# Altium schematic symbol library IC_Chip.SchLib: 4 symbols
Pins are listed as number, name and electrical type; pins without a type are passive.

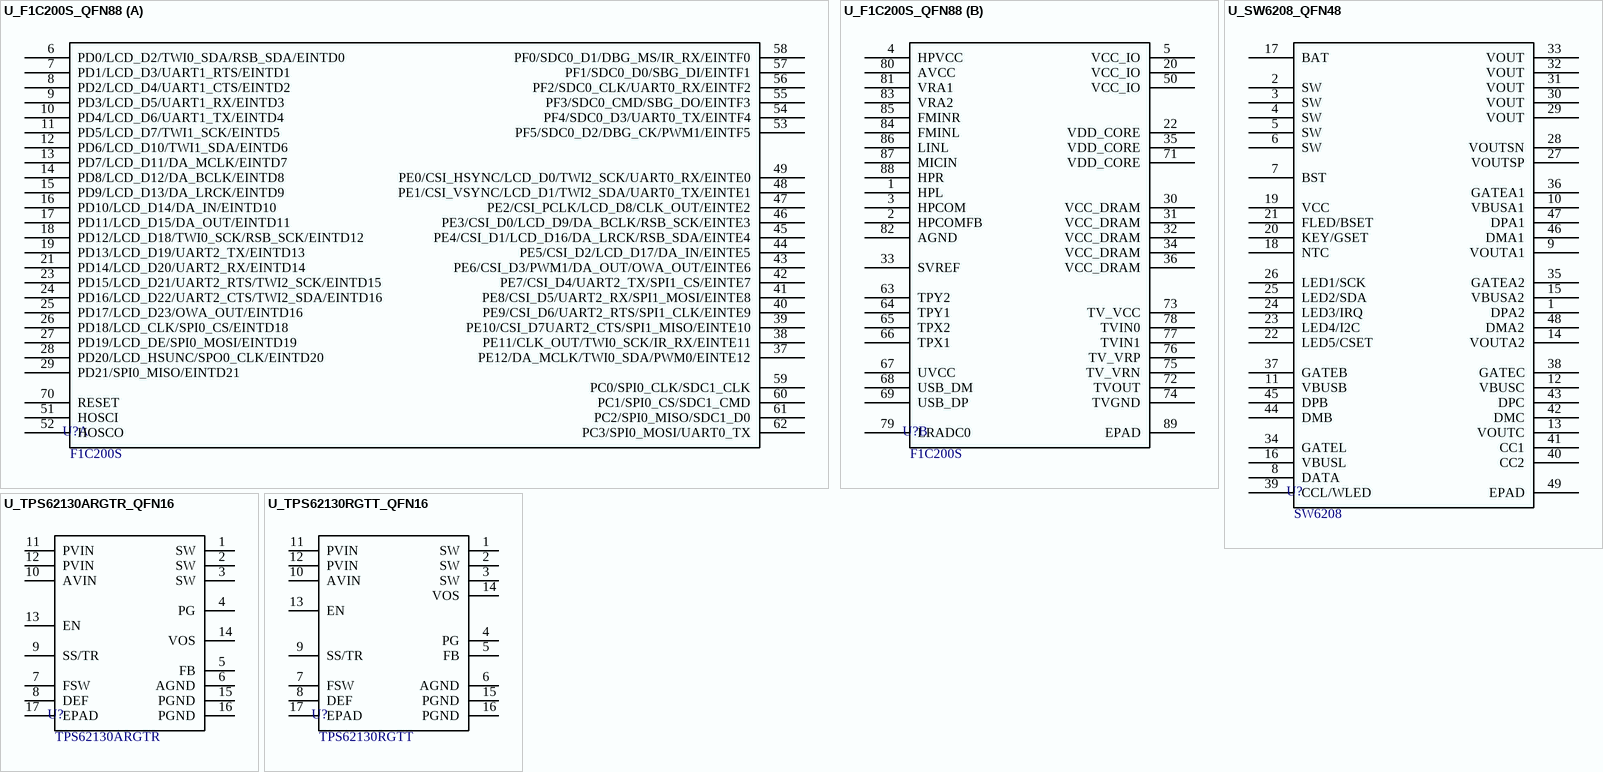
[diagram p0: symbols U_F1C200S_QFN88 to U_TPS62130RGTT_QFN16]

## U_F1C200S_QFN88
designator U?  value F1C200S  (hidden comment: U_F1C200S_QFN88)
footprint MQFN88-10X10-EP
part A pins: 6 PD0/LCD_D2/TWI0_SDA/RSB_SDA/EINTD0, 7 PD1/LCD_D3/UART1_RTS/EINTD1, 8 PD2/LCD_D4/UART1_CTS/EINTD2, 9 PD3/LCD_D5/UART1_RX/EINTD3, 10 PD4/LCD_D6/UART1_TX/EINTD4, 11 PD5/LCD_D7/TWI1_SCK/EINTD5, 12 PD6/LCD_D10/TWI1_SDA/EINTD6, 13 PD7/LCD_D11/DA_MCLK/EINTD7, 14 PD8/LCD_D12/DA_BCLK/EINTD8, 15 PD9/LCD_D13/DA_LRCK/EINTD9, 16 PD10/LCD_D14/DA_IN/EINTD10, 17 PD11/LCD_D15/DA_OUT/EINTD11, 18 PD12/LCD_D18/TWI0_SCK/RSB_SCK/EINTD12, 19 PD13/LCD_D19/UART2_TX/EINTD13, 21 PD14/LCD_D20/UART2_RX/EINTD14, 23 PD15/LCD_D21/UART2_RTS/TWI2_SCK/EINTD15, 24 PD16/LCD_D22/UART2_CTS/TWI2_SDA/EINTD16, 25 PD17/LCD_D23/OWA_OUT/EINTD16, 26 PD18/LCD_CLK/SPI0_CS/EINTD18, 27 PD19/LCD_DE/SPI0_MOSI/EINTD19, 28 PD20/LCD_HSUNC/SPO0_CLK/EINTD20, 29 PD21/SPI0_MISO/EINTD21, 37 PE12/DA_MCLK/TWI0_SDA/PWM0/EINTE12, 38 PE11/CLK_OUT/TWI0_SCK/IR_RX/EINTE11, 39 PE10/CSI_D7UART2_CTS/SPI1_MISO/EINTE10, 40 PE9/CSI_D6/UART2_RTS/SPI1_CLK/EINTE9, 41 PE8/CSI_D5/UART2_RX/SPI1_MOSI/EINTE8, 42 PE7/CSI_D4/UART2_TX/SPI1_CS/EINTE7, 43 PE6/CSI_D3/PWM1/DA_OUT/OWA_OUT/EINTE6, 44 PE5/CSI_D2/LCD_D17/DA_IN/EINTE5, 45 PE4/CSI_D1/LCD_D16/DA_LRCK/RSB_SDA/EINTE4, 46 PE3/CSI_D0/LCD_D9/DA_BCLK/RSB_SCK/EINTE3, 47 PE2/CSI_PCLK/LCD_D8/CLK_OUT/EINTE2, 48 PE1/CSI_VSYNC/LCD_D1/TWI2_SDA/UART0_TX/EINTE1, 49 PE0/CSI_HSYNC/LCD_D0/TWI2_SCK/UART0_RX/EINTE0, 51 HOSCI, 52 HOSCO, 53 PF5/SDC0_D2/DBG_CK/PWM1/EINTF5, 54 PF4/SDC0_D3/UART0_TX/EINTF4, 55 PF3/SDC0_CMD/SBG_DO/EINTF3, 56 PF2/SDC0_CLK/UART0_RX/EINTF2, 57 PF1/SDC0_D0/SBG_DI/EINTF1, 58 PF0/SDC0_D1/DBG_MS/IR_RX/EINTF0, 59 PC0/SPI0_CLK/SDC1_CLK, 60 PC1/SPI0_CS/SDC1_CMD, 61 PC2/SPI0_MISO/SDC1_D0, 62 PC3/SPI0_MOSI/UART0_TX, 70 RESET
part B pins: 1 HPL, 2 HPCOMFB, 3 HPCOM, 4 HPVCC, 5 VCC_IO, 20 VCC_IO, 22 VDD_CORE, 30 VCC_DRAM, 31 VCC_DRAM, 32 VCC_DRAM, 33 SVREF, 34 VCC_DRAM, 35 VDD_CORE, 36 VCC_DRAM, 50 VCC_IO, 63 TPY2, 64 TPY1, 65 TPX2, 66 TPX1, 67 UVCC, 68 USB_DM, 69 USB_DP, 71 VDD_CORE, 72 TVOUT, 73 TV_VCC, 74 TVGND, 75 TV_VRN, 76 TV_VRP, 77 TVIN1, 78 TVIN0, 79 LRADC0, 80 AVCC, 81 VRA1, 82 AGND, 83 VRA2, 84 FMINL, 85 FMINR, 86 LINL, 87 MICIN, 88 HPR, 89 EPAD

## U_SW6208_QFN48
designator U?  value SW6208  (hidden comment: U_SW6208_QFN48)
The SW6208 is a highly integrated power management IC for fast charge power bank application, and supports A+A+B+C+L five ports.
footprint QFN48-6x6-EP
pins: 1 DPA2 "Type-A2口DP引脚", 2 SW "开关节点", 3 SW "开关节点", 4 SW "开关节点", 5 SW "开关节点", 6 SW "开关节点", 7 BST "上N管驱动Bootstrap引脚", 8 DATA "Lightning口DATA引脚", 9 VOUTA1 "Type-A1口轻载电流检测引脚", 10 VBUSA1 "Type-A1口输出电压检测引脚", 11 VBUSB "Micro-B口输入电压检测引脚", 12 VBUSC "Type-C口输入输出电压检测引脚", 13 VOUTC "Type-C口轻载电流检测引脚", 14 VOUTA2 "Type-A2口轻载电流检测引脚", 15 VBUSA2 "Type-A2口输出电压检测引脚", 16 VBUSL "Lightning口输入电压检测引脚", 17 BAT "电池电压检测引脚", 18 NTC "电池温度检测引脚", 19 VCC "内部工作电源", 20 KEY/GSET "机械按键输入，电量计恒流充电时间参数设置", 21 FLED/BSET "快充指示，电池目标电压设置", 22 LED5/CSET "数码管显示接口5，及电池容量设置", 23 LED4/I2C "LED灯或数码管显示接口4，及I2C设置信号", 24 LED3/IRQ "LED灯或数码管显示接口3，可复用为中断信号", 25 LED2/SDA "LED灯或数码管显示接口2，可复用I2C数据信号", 26 LED1/SCK "LED灯或数码管显示接口1，可复用I2C时钟信号", 27 VOUTSP "输入输出电流检测正端", 28 VOUTSN "输入输出电流检测负端", 29 VOUT "充电电路输入，升压电路输出引脚", 30 VOUT "充电电路输入，升压电路输出引脚", 31 VOUT "充电电路输入，升压电路输出引脚", 32 VOUT "充电电路输入，升压电路输出引脚", 33 VOUT "充电电路输入，升压电路输出引脚", 34 GATEL "Lightning口通路控制", 35 GATEA2 "Type-A2口通路控制", 36 GATEA1 "Type-A1口通路控制", 37 GATEB "Micro-B口通路控制", 38 GATEC "Type-C口通路控制", 39 CCL/WLED "Lightning口CC引脚，可配置为照明输出", 40 CC2 "Type-C配置通道2", 41 CC1 "Type-C配置通道1", 42 DMC "Type-C口DM引脚", 43 DPC "Type-C口DP引脚", 44 DMB "Micro-B口DM引脚", 45 DPB "Micro-B口DP引脚", 46 DMA1 "Type-A1口DM引脚", 47 DPA1 "Type-A1口DP引脚", 48 DMA2 "Type-A2口DM引脚", 49 EPAD "散热PAD，接地"

## U_TPS62130ARGTR_QFN16
designator U?  value TPS62130ARGTR  (hidden comment: U_TPS62130ARGTR_QFN16)
TPS6213x 3-V to17-V, 3-A Step-Down Converter In 3-mm × 3-mm QFN Package; ERP: *
footprint QFN16-3X3-EP
pins: 1 SW, 2 SW, 3 SW, 4 PG, 5 FB, 6 AGND, 7 FSW, 8 DEF, 9 SS/TR, 10 AVIN, 11 PVIN, 12 PVIN, 13 EN, 14 VOS, 15 PGND, 16 PGND, 17 EPAD

## U_TPS62130RGTT_QFN16
designator U?  value TPS62130RGTT  (hidden comment: U_TPS62130RGTT_QFN16)
TPS6213x 3-V to17-V, 3-A Step-Down Converter In 3-mm × 3-mm QFN Package; ERP: *
footprint QFN16-3X3-EP
pins: 1 SW, 2 SW, 3 SW, 4 PG, 5 FB, 6 AGND, 7 FSW, 8 DEF, 9 SS/TR, 10 AVIN, 11 PVIN, 12 PVIN, 13 EN, 14 VOS, 15 PGND, 16 PGND, 17 EPAD